# EAGLE library part IWM (library Custom)
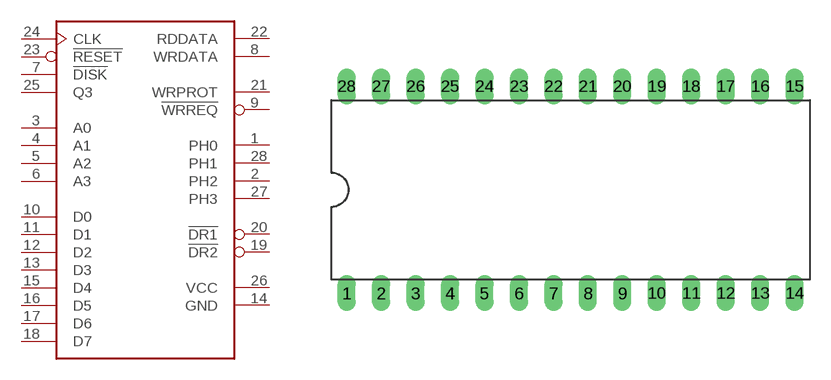
[diagram p34: symbol with the pads of DIL28-6; footprint DIL28-6]

Designator prefix -

## IWMDIL28  [DIL28-6]
1  PH0
2  PH2
3  A0
4  A1
5  A2
6  A3
7  !DISK
8  WRDATA
9  !WRREQ
10  D0
11  D1
12  D2
13  D3
14  GND
15  D4
16  D5
17  D6
18  D7
19  !DR2
20  !DR1
21  WRPROT
22  RDDATA
23  !RESET
24  CLK
25  Q3
26  VCC
27  PH3
28  PH1

## Footprint DIL28-6 (pad centres in mm)
Dual In Line Package 0.6 inch
drill 0.813 long: 1 -16.51,-7.62; 2 -13.97,-7.62; 3 -11.43,-7.62; 4 -8.89,-7.62; 5 -6.35,-7.62; 6 -3.81,-7.62; 7 -1.27,-7.62; 8 1.27,-7.62; 9 3.81,-7.62; 10 6.35,-7.62; 11 8.89,-7.62; 12 11.43,-7.62; 13 13.97,-7.62; 14 16.51,-7.62; 15 16.51,7.62; 16 13.97,7.62; 17 11.43,7.62; 18 8.89,7.62; 19 6.35,7.62; 20 3.81,7.62; 21 1.27,7.62; 22 -1.27,7.62; 23 -3.81,7.62; 24 -6.35,7.62; 25 -8.89,7.62; 26 -11.43,7.62; 27 -13.97,7.62; 28 -16.51,7.62